# EAGLE library part AD633 (library Fitch_Eagle_Library)
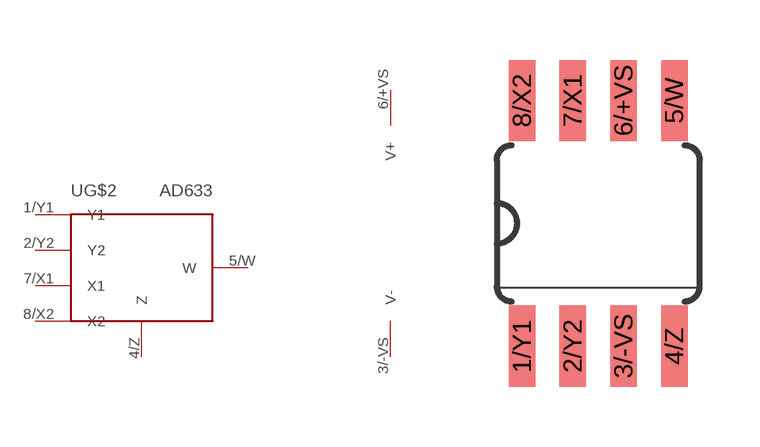
[diagram p6: symbol with the pads of AD633; footprint AD633]

Designator prefix -; gates G$1=V+/V- G$2=AD633

## AD633  [AD633]
1/Y1  G$2:Y1
2/Y2  G$2:Y2
3/-VS  G$1:V-
4/Z  G$2:Z
5/W  G$2:W
6/+VS  G$1:V+
7/X1  G$2:X1
8/X2  G$2:X2

## Footprint AD633 (pad centres in mm)
smd 0.66 x 2.032: 1/Y1 -1.905,-3.073; 2/Y2 -0.635,-3.073; 3/-VS 0.635,-3.073; 4/Z 1.905,-3.073; 5/W 1.905,3.073; 6/+VS 0.635,3.073; 7/X1 -0.635,3.073; 8/X2 -1.905,3.073